# EAGLE library part ADA4077-1ARZ (library duppy_common)
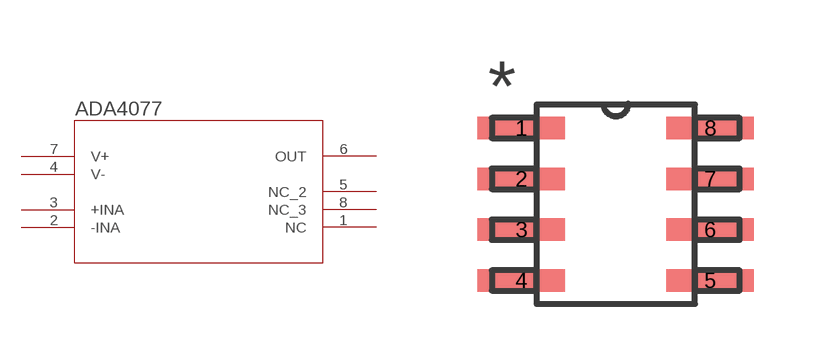
[diagram p1: symbol with the pads of R_8; footprint R_8]

Designator prefix U

## ADA4077-1ARZ  [R_8]
1  NC  pas
2  -INA  pas
3  +INA  pas
4  V-  pas
5  NC_2  pas
6  OUT  pas
7  V+  pas
8  NC_3  pas

## Footprint R_8 (pad centres in mm)
smd 2.184 x 0.559: 1 -2.362,1.905; 2 -2.362,0.635; 3 -2.362,-0.635; 4 -2.362,-1.905; 5 2.362,-1.905; 6 2.362,-0.635; 7 2.362,0.635; 8 2.362,1.905